# Altium schematic symbol library Passive.SchLib: 20 symbols
Pins are listed as number, name and electrical type; pins without a type are passive.

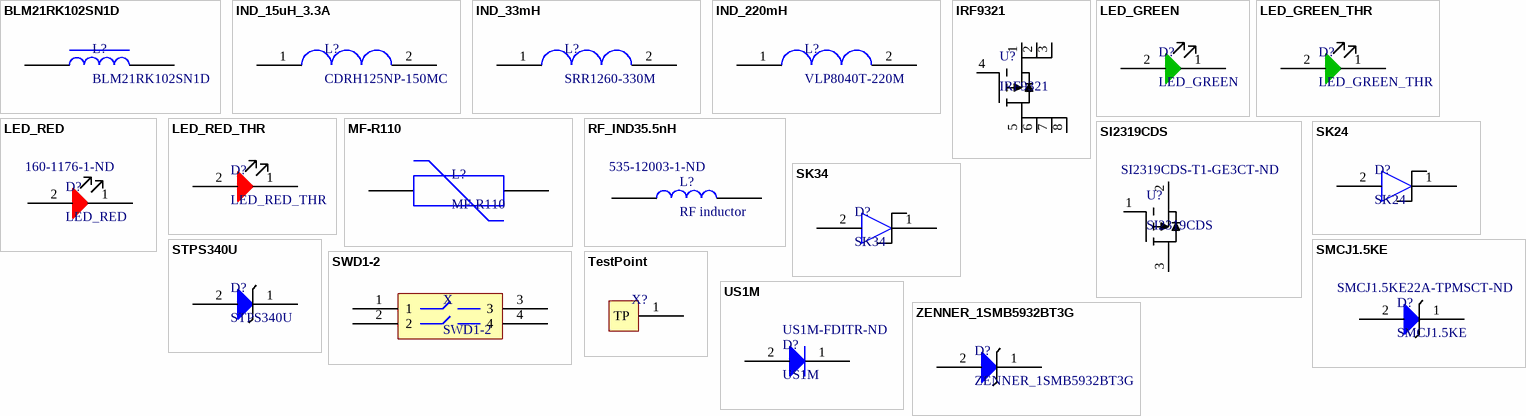
[diagram p0: symbols BLM21RK102SN1D to ZENNER_1SMB5932BT3G]

## BLM21RK102SN1D
designator L?
Supplier 1: Digi-Key; Supplier Part Number 1: 490-9711-1-ND
footprint DIOC2012X11N (Chip Diode, 2-Leads, Body 2.00x1.25mm, IPC Medium Density)
pins: 1, 2

## IND_15uH_3.3A
designator L?, comment CDRH125NP-150MC
Supplier 1: Digi-Key; Supplier Part Number 1: 308-1440-1-ND
footprint INDP123123X40N_SUMIDA (Precision Wire Wound Inductor, 2-Leads, Body 12.35x12.35mm, IPC Medium Density)
pins: 1, 2

## IND_33mH
designator L?, comment SRR1260-330M
FIXED IND 33UH 3A 60 MOHM SMD; Supplier 1: Digi-Key; Supplier Part Number 1: SRR1260-330MTR-ND
footprint INDP123123X40N (Precision Wire Wound Inductor, 2-Leads, Body 12.35x12.35mm, IPC Medium Density)
pins: 1, 2

## IND_220mH
designator L?, comment VLP8040T-220M
Supplier 1: Digi-Key; Supplier Part Number 1: 445-6576-6-ND
footprint INDP6868X45N (Precision Wire Wound Inductor, 2-Leads, Body 6.80x6.80mm, IPC Medium Density)
pins: 1, 2

## IRF9321
designator U?
Supplier 1: Digi-Key; Supplier Part Number 1: IRF9321PBF-ND
footprint SOIC127P600X175-8N (SOIC, 8-Leads, Body 4.90x3.90mm, Pitch 1.27mm, IPC Medium Density)
pins: 1 S, 2 S, 3 S, 4 G, 5 D, 6 D, 7 D, 8 D

## LED_GREEN
designator D?
Supplier 1: Digi-Key; Supplier Part Number 1: 160-1179-2-ND
footprint DIOC2012X11N (Chip Diode, 2-Leads, Body 2.00x1.25mm, IPC Medium Density)
pins: 1 C, 2 A

## LED_GREEN_THR
designator D?
C503B-GCN
footprint LED_GREEN_THROUGH (ThroughHole)
pins: 1 C, 2 A

## LED_RED
designator D?  Supplier Part Number 1: 160-1176-1-ND
Supplier 1: Digi-Key
footprint DIOC2012X11N (Chip Diode, 2-Leads, Body 2.00x1.25mm, IPC Medium Density)
pins: 1 C, 2 A

## LED_RED_THR
designator D?
C503B-RCN
footprint LED_RED_THROUGH (ThroughHole)
pins: 1 C, 2 A

## MF-R110
designator L?
FUSE PTC RESETTABLE 1.10A; Supplier 1: Digi-Key; Supplier Part Number 1: MF-R110-ND
footprint MF-R110_FOOT
pins: 1, 2

## RF_IND35.5nH
designator L?, comment RF inductor  Supplier Part Number 1: 535-12003-1-ND
RF 35.5NH 1.5GHZ; value: 35.5nH; Supplier 1: Digi-Key
footprint DIOC2012X11N_RF (Chip Diode, 2-Leads, Body 2.00x1.25mm, IPC Medium Density)
pins: 1, 2

## SI2319CDS
designator U?  Supplier Part Number 1: SI2319CDS-T1-GE3CT-ND
Supplier 1: Digi-Key
footprint SOT95P245X112-3N (SOT23, 3-Leads, Body 2.92x2.45mm, Pitch 0.95mm, IPC Medium Density)
pins: 1 G, 2 S, 3 D

## SK24
designator D?
Rectifiers Rectifier 40V 50A; Supplier 1: Mouser; Supplier Part Number 1: 833-SK24-TP
footprint DIOM4336X30N (Molded Diode, 2-Leads, Body 4.31x3.62mm, IPC Medium Density)
pins: 1 C, 2 A

## SK34
designator D?
DIODE SCHOTTKY 40V 3A DO214AC; Supplier 1: Digi-Key; Supplier Part Number 1: SK34A-LTPMSCT-ND
footprint DIOM4336X30N (Molded Diode, 2-Leads, Body 4.31x3.62mm, IPC Medium Density)
pins: 1 C, 2 A

## SMCJ1.5KE
designator D?  Supplier Part Number 1: SMCJ1.5KE22A-TPMSCT-ND
Supplier 1: Digi-Key
footprint DIOM6959X26N_ DO-214AB (Molded Diode, 2-Leads, Body 6.85x5.90mm, IPC Medium Density)
pins: 1 C, 2 A

## STPS340U
designator D?
DIODE, ZENER, 20V, 3W; Supplier 1: Digi-Key; Supplier Part Number 1: 497-13432-1-ND
footprint SODFL535X265-2N (SODFL, 2-Leads, Body 3.63x5.35mm, IPC Medium Density)
pins: 1 C, 2 A

## SWD1-2
designator X
pins: 1, 2, 3, 4

## TestPoint
designator X?  (value not drawn)
footprint TP (TestPoint)
pins: 1 TP (power)

## US1M
designator D?  Supplier Part Number 1: US1M-FDITR-ND
DIODE ULTRA FAST 1KV 1A SMA; Supplier 1: Digi-Key
footprint DIOM5226X23N (Molded Diode, 2-Leads, Body 5.19x2.60mm, IPC Medium Density)
pins: 1 C, 2 A

## ZENNER_1SMB5932BT3G
designator D?
DIODE, ZENER, 20V, 3W; Supplier 1: Farnell; Supplier Part Number 1: 1431174
footprint DIOM5336X23N (Molded Diode, 2-Leads, Body 5.33x3.63mm, IPC Medium Density)
pins: 1 C, 2 A